# EAGLE library part 1280S14-U (library nw2s)
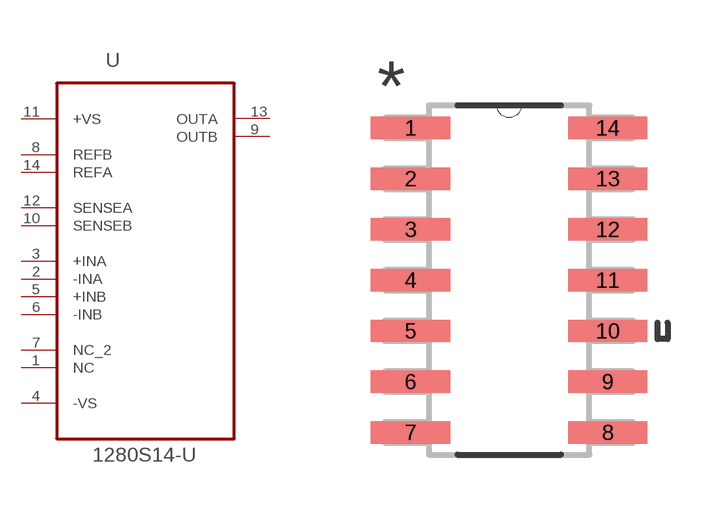
[diagram p6: symbol with the pads of SOIC127P600X175-14N; footprint SOIC127P600X175-14N]

Designator prefix -

## 1280S14-U  [SOIC127P600X175-14N]
1  NC  nc
2  -INA  in
3  +INA  in
4  -VS  pwr
5  +INB  in
6  -INB  in
7  NC_2  nc
8  REFB  pas
9  OUTB  out
10  SENSEB  in
11  +VS  pwr
12  SENSEA  in
13  OUTA  out
14  REFA  pas

## Footprint SOIC127P600X175-14N (pad centres in mm)
smd 1.981 x 0.559: 1 -2.464,3.81; 2 -2.464,2.54; 3 -2.464,1.27; 4 -2.464,0; 5 -2.464,-1.27; 6 -2.464,-2.54; 7 -2.464,-3.81; 8 2.464,-3.81; 9 2.464,-2.54; 10 2.464,-1.27; 11 2.464,0; 12 2.464,1.27; 13 2.464,2.54; 14 2.464,3.81